# EAGLE library part 75451 (library s100)
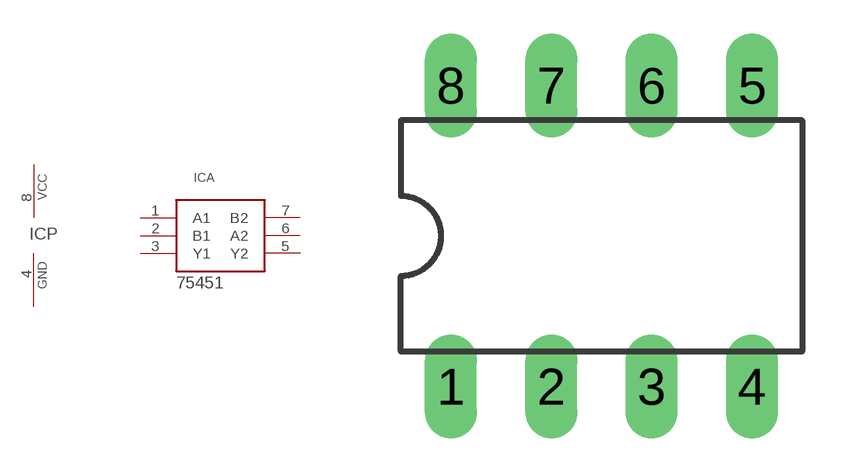
[diagram p3: symbol with the pads of DIL08; footprint DIL08]

Designator prefix IC; gates A=75451 P=PWRN

## 75451  [DIL08]
1  A:A1
2  A:B1
3  A:Y1
4  P:GND  pwr
5  A:Y2
6  A:A2
7  A:B2
8  P:VCC  pwr

## Footprint DIL08 (pad centres in mm)
Dual In Line Package
drill 0.813 long: 1 -3.81,-3.81; 2 -1.27,-3.81; 3 1.27,-3.81; 4 3.81,-3.81; 5 3.81,3.81; 6 1.27,3.81; 7 -1.27,3.81; 8 -3.81,3.81